# Altium footprint library nt.PcbLib: 1 footprints
Each footprint in its own frame and in the unit in brackets; x right, y up, seen from the top. Pads: shape width x height; smd on the part's side, far side on the other; paste and mask are expansions set on the pad; w line width, h text height; cw(c..) or ccw(c..) is an arc to the next point about the centre after c.
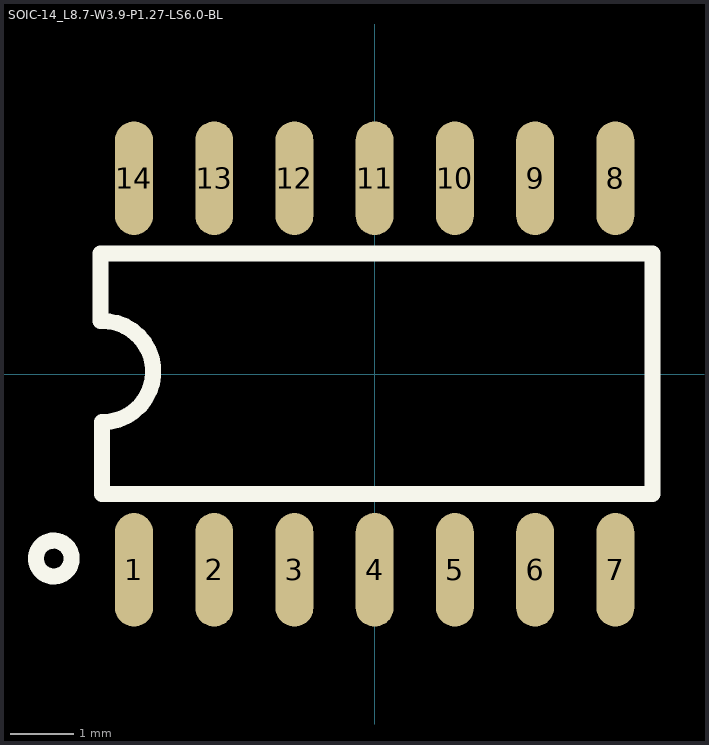
[diagram p0: the footprint, top view; thin cyan lines are the x and y axes]

## SOIC-14_L8.7-W3.9-P1.27-LS6.0-BL [mm]
pads (14):
  oval 0.6x1.798 smd: 1(-3.81,-3.1) 2(-2.54,-3.1) 3(-1.27,-3.1) 4(0,-3.1) 5(1.27,-3.1) 6(2.54,-3.1) 7(3.81,-3.1) 8(3.81,3.1) 9(2.54,3.1) 10(1.27,3.1) 11(0,3.1) 12(-1.27,3.1) 13(-2.54,3.1) 14(-3.81,3.1)
Top Overlay:
  circle w0.254: c-5.08,-2.921 r0.284
  lines w0.254: -4.318,-0.813 -4.318,-1.897 4.4,-1.897 4.4,1.905 -4.343,1.905 -4.343,0.838 cw(c-4.306,0.038) -4.318,-0.762